# Altium footprint library CL32B476MPJNNNE.PcbLib: 1 footprints
Each footprint in its own frame and in the unit in brackets; x right, y up, seen from the top. Pads: shape width x height; smd on the part's side, far side on the other; paste and mask are expansions set on the pad; w line width, h text height; cw(c..) or ccw(c..) is an arc to the next point about the centre after c.
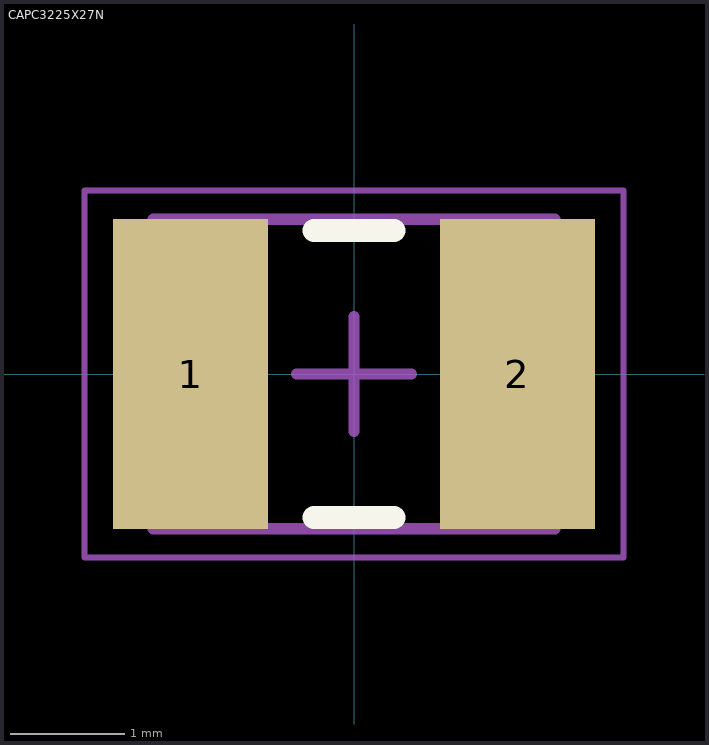
[diagram p0: the footprint, top view; thin cyan lines are the x and y axes]

## CAPC3225X27N [mm] "Chip Capacitor, 2-Leads, Body 3.20x2.50mm, IPC Medium Density"
height 2.7
pads (2):
  rect 1.35x2.7 smd: 1(-1.425,0) 2(1.425,0)
Top Overlay:
  lines w0.2: -0.35,-1.25 0.35,-1.25 ; -0.35,1.25 0.35,1.25
Mechanical 13:
  lines w0.1: -1.75,-1.35 -1.75,1.35 1.75,1.35 1.75,-1.35 -1.75,-1.35
Mechanical 15:
  lines w0.05: -2.35,-1.6 -2.35,1.6 2.35,1.6 2.35,-1.6 -2.35,-1.6
  lines w0.1: -0.5,0 0.5,0 ; 0,-0.5 0,0.5
3D body "CAPC3225X27N.step": height 2.7, standoff 0, extent -1.75,-1.35 1.75,1.35